# EAGLE library part TC74ACT14FT (library IC)
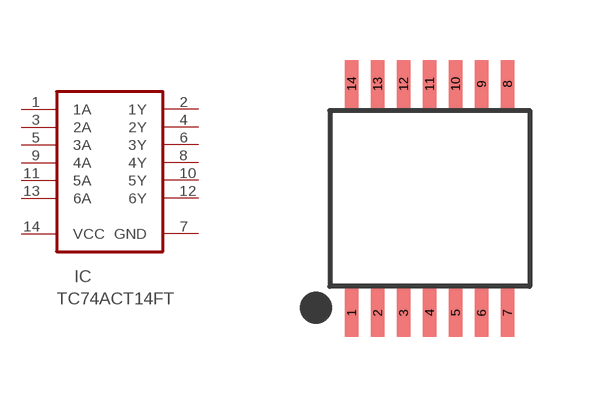
[diagram p8: symbol with the pads of TSSOP14-0.65; footprint TSSOP14-0.65]

Designator prefix IC

## TC74ACT14FT  [TSSOP14-0.65]
1  1A  in
2  1Y  out
3  2A  in
4  2Y  out
5  3A  in
6  3Y  out
7  GND  pwr
8  4Y  out
9  4A  in
10  5Y  out
11  5A  in
12  6Y  out
13  6A  in
14  VCC  pwr

## Footprint TSSOP14-0.65 (pad centres in mm)
smd 0.33 x 1.2: 1 -1.95,-2.86; 2 -1.3,-2.86; 3 -0.65,-2.86; 4 0,-2.86; 5 0.65,-2.86; 6 1.3,-2.86; 7 1.95,-2.86; 8 1.95,2.86; 9 1.3,2.86; 10 0.65,2.86; 11 0,2.86; 12 -0.65,2.86; 13 -1.3,2.86; 14 -1.95,2.86